# Altium footprint library thymio2-main.PcbLib: 38 footprints (part 1 of 3)
Each footprint in its own frame and in the unit in brackets; x right, y up, seen from the top. Pads: shape width x height; smd on the part's side, far side on the other; paste and mask are expansions set on the pad; w line width, h text height; cw(c..) or ccw(c..) is an arc to the next point about the centre after c.
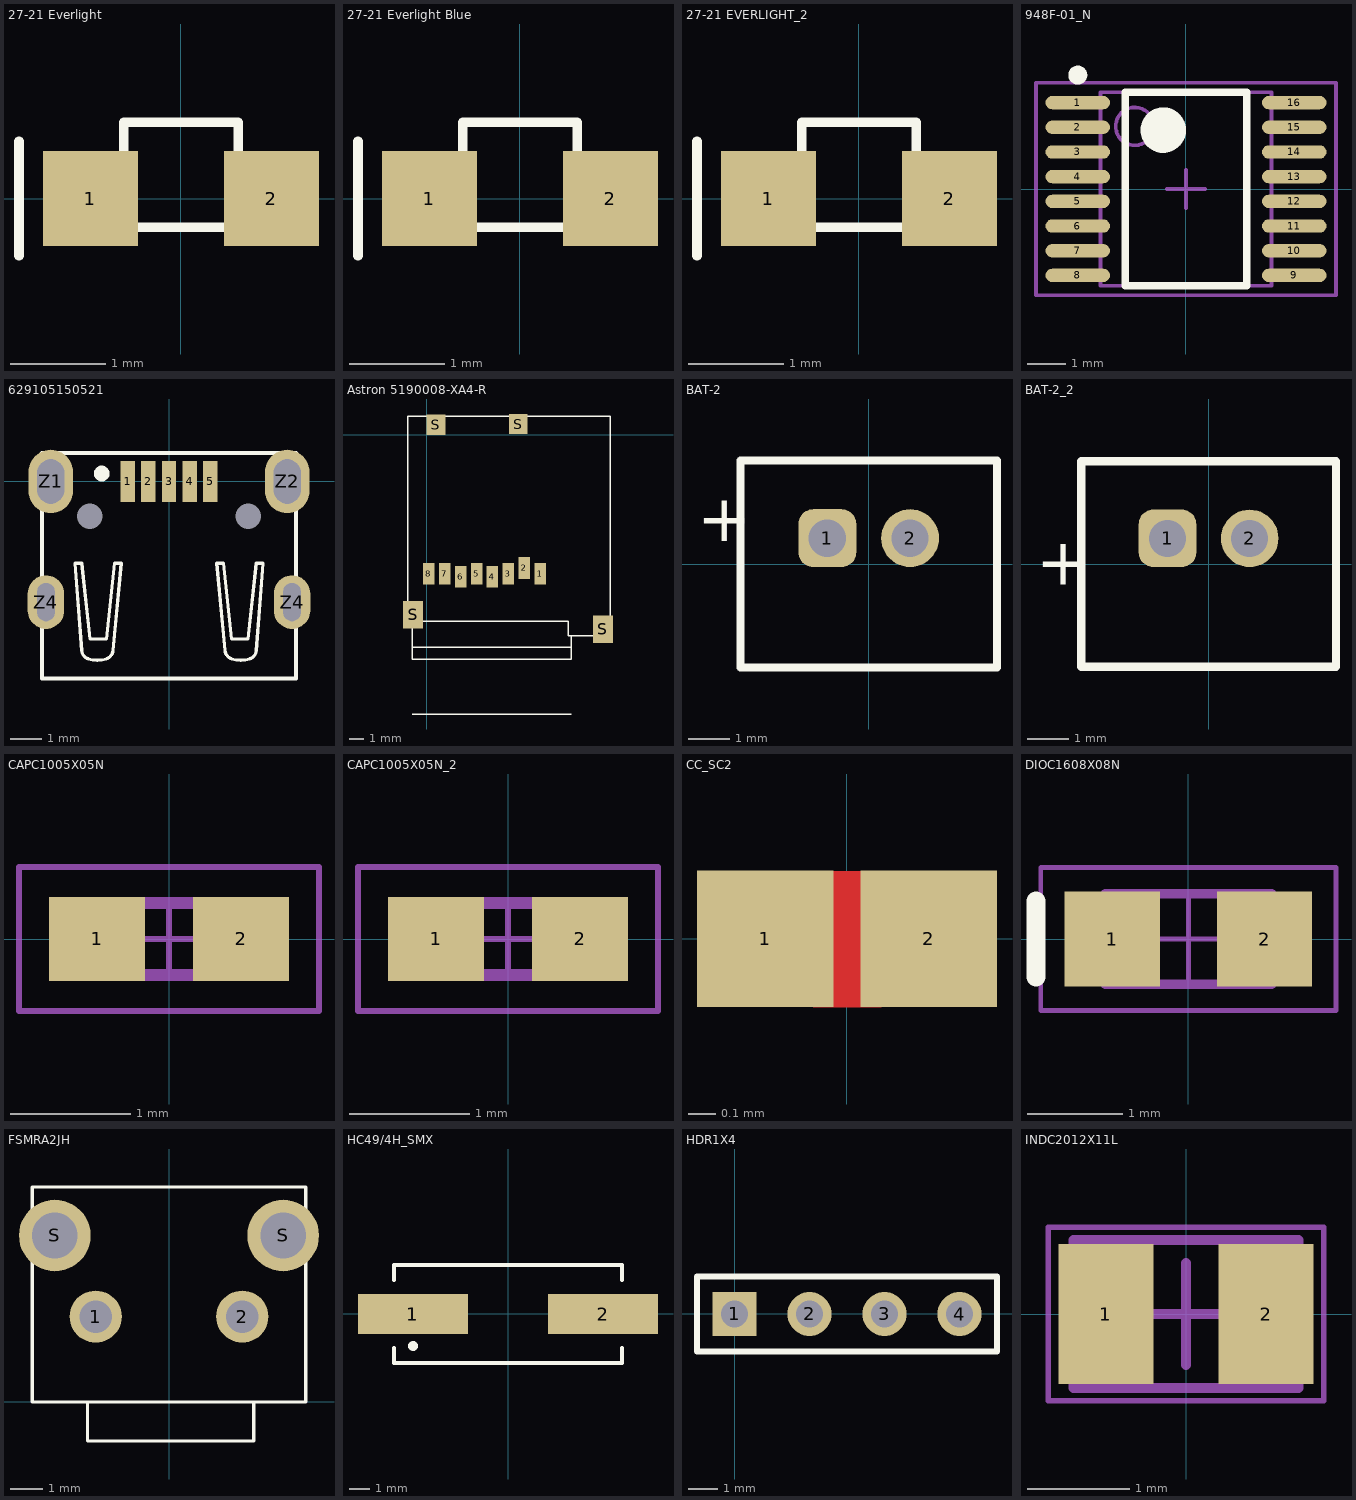
[diagram p0: the footprints below, top view; thin cyan lines are the x and y axes]

## 27-21 Everlight [mm] "1.7mm x 1.1mm right mounted led"
height 0.6
pads (2):
  rect 1x1 smd: 1(-0.95,0) 2(0.95,0)
Top Overlay:
  lines w0.1: -1.7,-0.6 -1.7,0.6 ; -1,-0.3 1,-0.3 1,0.3 0.6,0.3 0.6,0.8 -0.6,0.8 -0.6,0.3 -1,0.3 -1,-0.3
3D body: height 0.55, standoff 0, extent -0.6,0.3 0.6,0.8
3D body: height 0.55, standoff 0, extent -0.9,-0.3 0.9,0.3

## 27-21 Everlight Blue [mm] "1.7mm x 1.1mm right mounted led"
height 0.6
pads (2):
  rect 1x1 smd: 1(-0.95,0) 2(0.95,0)
Top Overlay:
  lines w0.1: -1.7,-0.6 -1.7,0.6 ; -1,-0.3 -1,0.3 -0.6,0.3 -0.6,0.8 0.6,0.8 0.6,0.3 1,0.3 1,-0.3 -1,-0.3
3D body: height 0.55, standoff 0, extent -0.9,-0.3 0.9,0.3
3D body: height 0.55, standoff 0, extent -0.6,0.3 0.6,0.8

## 27-21 EVERLIGHT_2 [mm]
pads (2):
  rect 1x1 smd: 1(-0.95,0) 2(0.95,0)
Top Overlay:
  lines w0.1: -1.7,-0.6 -1.7,0.6 ; -1,-0.3 -1,0.3 -0.6,0.3 -0.6,0.8 0.6,0.8 0.6,0.3 1,0.3 1,-0.3 -1,-0.3
3D body: height 0.55, standoff 0, extent -0.9,-0.3 0.9,0.3
3D body: height 0.55, standoff 0, extent -0.6,0.3 0.6,0.8

## 948F-01_N [mm] "TSOP, 16-Leads, Body 5x4.4mm, Pitch 0.65mm, IPC Medium Density"
height 1.2
pads (16):
  oval 1.7x0.35 smd: 1(-2.85,2.275) 2(-2.85,1.625) 3(-2.85,0.975) 4(-2.85,0.325) 5(-2.85,-0.325) 6(-2.85,-0.975) 7(-2.85,-1.625) 8(-2.85,-2.275) 9(2.85,-2.275) 10(2.85,-1.625) 11(2.85,-0.975) 12(2.85,-0.325) 13(2.85,0.325) 14(2.85,0.975) 15(2.85,1.625) 16(2.85,2.275)
Top Overlay:
  circle w0.6: c-0.6,1.55 r0.3
  circle w0.25: c-2.85,3 r0.125
  lines w0.2: -1.6,-2.55 1.6,-2.55 1.6,2.55 -1.6,2.55 -1.6,-2.55
Mechanical 13:
  circle w0.1: c-1.35,1.65 r0.5
  lines w0.1: -2.25,-2.55 2.25,-2.55 2.25,2.55 -2.25,2.55 -2.25,-2.55
Mechanical 15:
  lines w0.1: -0.5,0 0.5,0 ; 0,-0.5 0,0.5 ; -3.95,-2.8 3.95,-2.8 3.95,2.8 -3.95,2.8 -3.95,-2.8
3D body: height 1.2, standoff 0, extent -2.25,-2.55 2.25,2.55

## 629105150521 [mm] "WR-COM_USB_Micro Type B_Horizontal_SMT Micro Type B Horizontal SMT - 3A current at Pin1 & Pin 5 - with Pegs and THT shielding Pins  - T&R Packaging"
height 2.6
pads (11):
  rect 0.45x1.3 smd: 1(-1.3,0) 2(-0.65,0) 3(0,0) 4(0.65,0) 5(1.3,0)
  oval 1.4x2 hole 0.85 slot 1.4 at 90 deg: Z1(-3.725,0) Z2(3.725,0)
  oval 1.15x1.69 hole 0.55 slot 1.2 at 90 deg: Z4(-3.875,-3.8) Z4(3.875,-3.8)
  round 0.7 hole 0.8 unplated: ""(-2.5,-1.1) ""(2.5,-1.1)
Top Overlay:
  circle w0.254: c-2.12,0.25 r0.12
  lines w0.102: -2.751,-5.328 -2.959,-2.577 -2.751,-2.577 -2.492,-4.965 -1.973,-4.965 -1.713,-2.577 -1.505,-2.577 -1.765,-5.328 ; -2.751,-5.328 ccw(c-2.457,-5.306) -2.544,-5.588 ccw(c-2.258,-4.657) -1.973,-5.588 ccw(c-2.059,-5.306) -1.765,-5.328 ; 1.765,-5.328 1.505,-2.577 1.713,-2.577 1.973,-4.965 2.492,-4.965 2.751,-2.577 2.959,-2.577 2.751,-5.328 ; 1.765,-5.328 ccw(c2.059,-5.306) 1.973,-5.588 ccw(c2.258,-4.657) 2.544,-5.588 ccw(c2.457,-5.306) 2.751,-5.328
  lines w0.127: -4,-6.2 4,-6.2 4,0.9 -4,0.9 -4,-6.2
3D body "629105150521.stp": height 2.67, standoff -0.89, extent -4.001,-6.25 3.999,0.353

## Astron 5190008-XA4-R [mm] "MICRO SD/TransFlash Memory Card Connector"
height 1.88
pads (12):
  rect 0.8x1.5 smd: 1(7.86,-9.6) 2(6.76,-9.2) 3(5.66,-9.6) 4(4.56,-9.8) 5(3.46,-9.6) 6(2.36,-9.8) 7(1.26,-9.6) 8(0.16,-9.6)
  rect 1.4x1.9 smd: S(-0.93,-12.45) S(12.2,-13.45)
  rect 1.3x1.4 smd: S(0.65,0.7) S(6.35,0.75)
Top Overlay:
  lines w0.1: -1,-19.3 10,-19.3 ; -1,-14.7 10,-14.7 ; -1,-12.9 -1,-15.5 10,-15.5 10,-13.9 ; -1.3,-12.9 9.8,-12.9 9.8,-13.9 12.7,-13.9 12.7,1.3 -1.3,1.3 -1.3,-12.9
3D body: height 1.83, standoff 0.83, extent -1,-15.5 10,-0.5
3D body: height 1.88, standoff 0, extent -1.325,-13.9 12.725,1.3

## BAT-2 [mm] "Multicell Battery; 2 Leads"
pads (2):
  rrect50% 1.4x1.4 hole 0.9: 1(-1,0.625)
  round 1.4 hole 0.9: 2(1,0.625)
Top Overlay:
  lines w0.2: -3.1,-2.5 3.1,-2.5 3.1,2.5 -3.1,2.5 -3.1,-2.5
  text "+" at -4.151,0.55 h1.15
3D body: height 0.1, standoff 0, extent -3.1,-2.5 3.1,2.5
3D body "894000220.stp": height 6.07, standoff -3.38, extent -3,-2.325 3,2.325

## BAT-2_2 [mm]
pads (2):
  rrect50% 1.4x1.4 hole 0.9: 1(-1,0.625)
  round 1.4 hole 0.9: 2(1,0.625)
Top Overlay:
  lines w0.2: -3.1,-2.5 -3.1,2.5 3.1,2.5 3.1,-2.5 -3.1,-2.5
  text "+" at -4.2,-0.5 h1.15
3D body "894000220.stp": height 6.07, standoff -3.38, extent -3,-2.325 3,2.325
3D body: height 0.1, standoff 0, extent -3.1,-2.5 3.1,2.5

## CAPC1005X05N [mm] "Chip Capacitor, Body 1.1x0.5mm, IPC Medium Density, EIA 0402"
height 0.5
pads (2):
  rect 0.8x0.7 smd: 1(-0.6,0) 2(0.6,0)
Mechanical 13:
  lines w0.1: -0.55,-0.3 0.55,-0.3 0.55,0.3 -0.55,0.3 -0.55,-0.3
Mechanical 15:
  lines w0.05: -0.3,0 0.3,0 ; 0,-0.3 0,0.3 ; -1.25,-0.6 -1.25,0.6 1.25,0.6 1.25,-0.6 -1.25,-0.6
3D body: height 0.6, standoff 0, extent -0.55,-0.3 -0.25,0.3
3D body: height 0.6, standoff 0, extent -0.25,-0.3 0.25,0.3
3D body: height 0.6, standoff 0, extent 0.25,-0.3 0.55,0.3

## CAPC1005X05N_2 [mm]
pads (2):
  rect 0.8x0.7 smd: 1(-0.6,0) 2(0.6,0)
Mechanical 13:
  lines w0.1: -0.55,-0.3 0.55,-0.3 0.55,0.3 -0.55,0.3 -0.55,-0.3
Mechanical 15:
  lines w0.05: -0.3,0 0.3,0 ; 0,-0.3 0,0.3 ; -1.25,-0.6 -1.25,0.6 1.25,0.6 1.25,-0.6 -1.25,-0.6
3D body: height 0.6, standoff 0, extent -0.55,-0.3 -0.25,0.3
3D body: height 0.6, standoff 0, extent -0.25,-0.3 0.25,0.3
3D body: height 0.6, standoff 0, extent 0.25,-0.3 0.55,0.3

## CC_SC2 [mm] "Short Circuit 2 Connections"
height 1
pads (2):
  rect 0.5x0.5 smd paste-2: 1(-0.3,0) 2(0.3,0)
Top Layer:
  region: 0.126,0.249 -0.124,0.249 -0.124,-0.251 0.126,-0.251
3D body: height 0, standoff 0, extent -0.55,-0.25 0.55,0.25

## DIOC1608X08N [mm] "Chip Diode, Body 1.6x0.8mm, IPC Medium Density"
height 0.85
pads (2):
  rect 1x1 smd: 1(-0.8,0) 2(0.8,0)
Top Overlay:
  lines w0.2: -1.6,-0.4 -1.6,0.4
Mechanical 13:
  lines w0.1: -0.625,-0.475 -0.625,0.475 ; -0.875,-0.475 -0.875,0.475 0.875,0.475 0.875,-0.475 -0.875,-0.475
  text ".Designator" at -0.635,-0.254 h0.5
Mechanical 15:
  lines w0.05: -0.475,0 0.475,0 ; 0,-0.475 0,0.475 ; -1.55,-0.75 -1.55,0.75 1.55,0.75 1.55,-0.75 -1.55,-0.75
3D body: height 0.85, standoff 0, extent -0.875,-0.475 0.875,0.475

## FSMRA2JH [mm] "Tyco pushbuttonswitch 1825027-5"
pads (4):
  round 1.6 hole 1: 1(-2.25,2.62) 2(2.25,2.62)
  round 2.2 hole 1.4: S(-3.505,5.11) S(3.505,5.11)
Top Overlay:
  lines w0.1: -2.5,0 -2.5,-1.2 2.6,-1.2 2.6,0 ; -4.2,0 -4.2,6.6 4.2,6.6 4.2,0 -4.2,0
3D body "c-1825027-5-g1-3d.stp": height 7.03, standoff -3.49, extent -4.204,-1.245 4.204,6.617

## HC49/4H_SMX [mm] "Surface Mount Quartz Crystal; Body 13.4 (inc. leads) x 4.9 mm (LxW max)"
height 4.3
pads (2):
  rect 5.5x2 smd: 1(-4.75,0) 2(4.75,0)
Top Overlay:
  circle w0.25: c-4.75,-1.6 r0.125
  lines w0.2: -5.7,-1.7 -5.7,-2.45 5.7,-2.45 5.7,-1.7 ; -5.7,1.7 -5.7,2.45 5.7,2.45 5.7,1.7
3D body: height 4.3, standoff 0, extent -5.8,-2.55 5.8,2.55

## HDR1X4 [mm] "Connector; Header; 4 Position"
pads (4):
  rect 1.5x1.5 hole 0.9: 1(0,0)
  round 1.5 hole 0.9: 2(2.54,0) 3(5.08,0) 4(7.62,0)
Top Overlay:
  lines w0.2: -1.27,-1.27 8.89,-1.27 8.89,1.27 -1.27,1.27 -1.27,-1.27

## INDC2012X11L [mm] "Chip Inductor, 2-Leads, Body 2.00x1.25mm, IPC High Density"
height 1.1
pads (2):
  rect 0.93x1.37 smd: 1(-0.785,0) 2(0.785,0)
Mechanical 13:
  lines w0.1: -1.1,-0.725 1.1,-0.725 1.1,0.725 -1.1,0.725 -1.1,-0.725
Mechanical 15:
  lines w0.05: -1.35,-0.85 1.35,-0.85 1.35,0.85 -1.35,0.85 -1.35,-0.85
  lines w0.1: -0.5,0 0.5,0 ; 0,-0.5 0,0.5
3D body: height 1.1, standoff 0, extent 0.6,-0.725 1.1,0.725
3D body: height 1.1, standoff 0, extent -1.1,-0.725 -0.6,0.725
3D body: height 1.1, standoff 0, extent -0.6,-0.725 0.6,0.725